# Altium integrated library TI Amplifiers and Linear Special Function Amplifier.IntLib: 708 symbols (part 6 of 47)
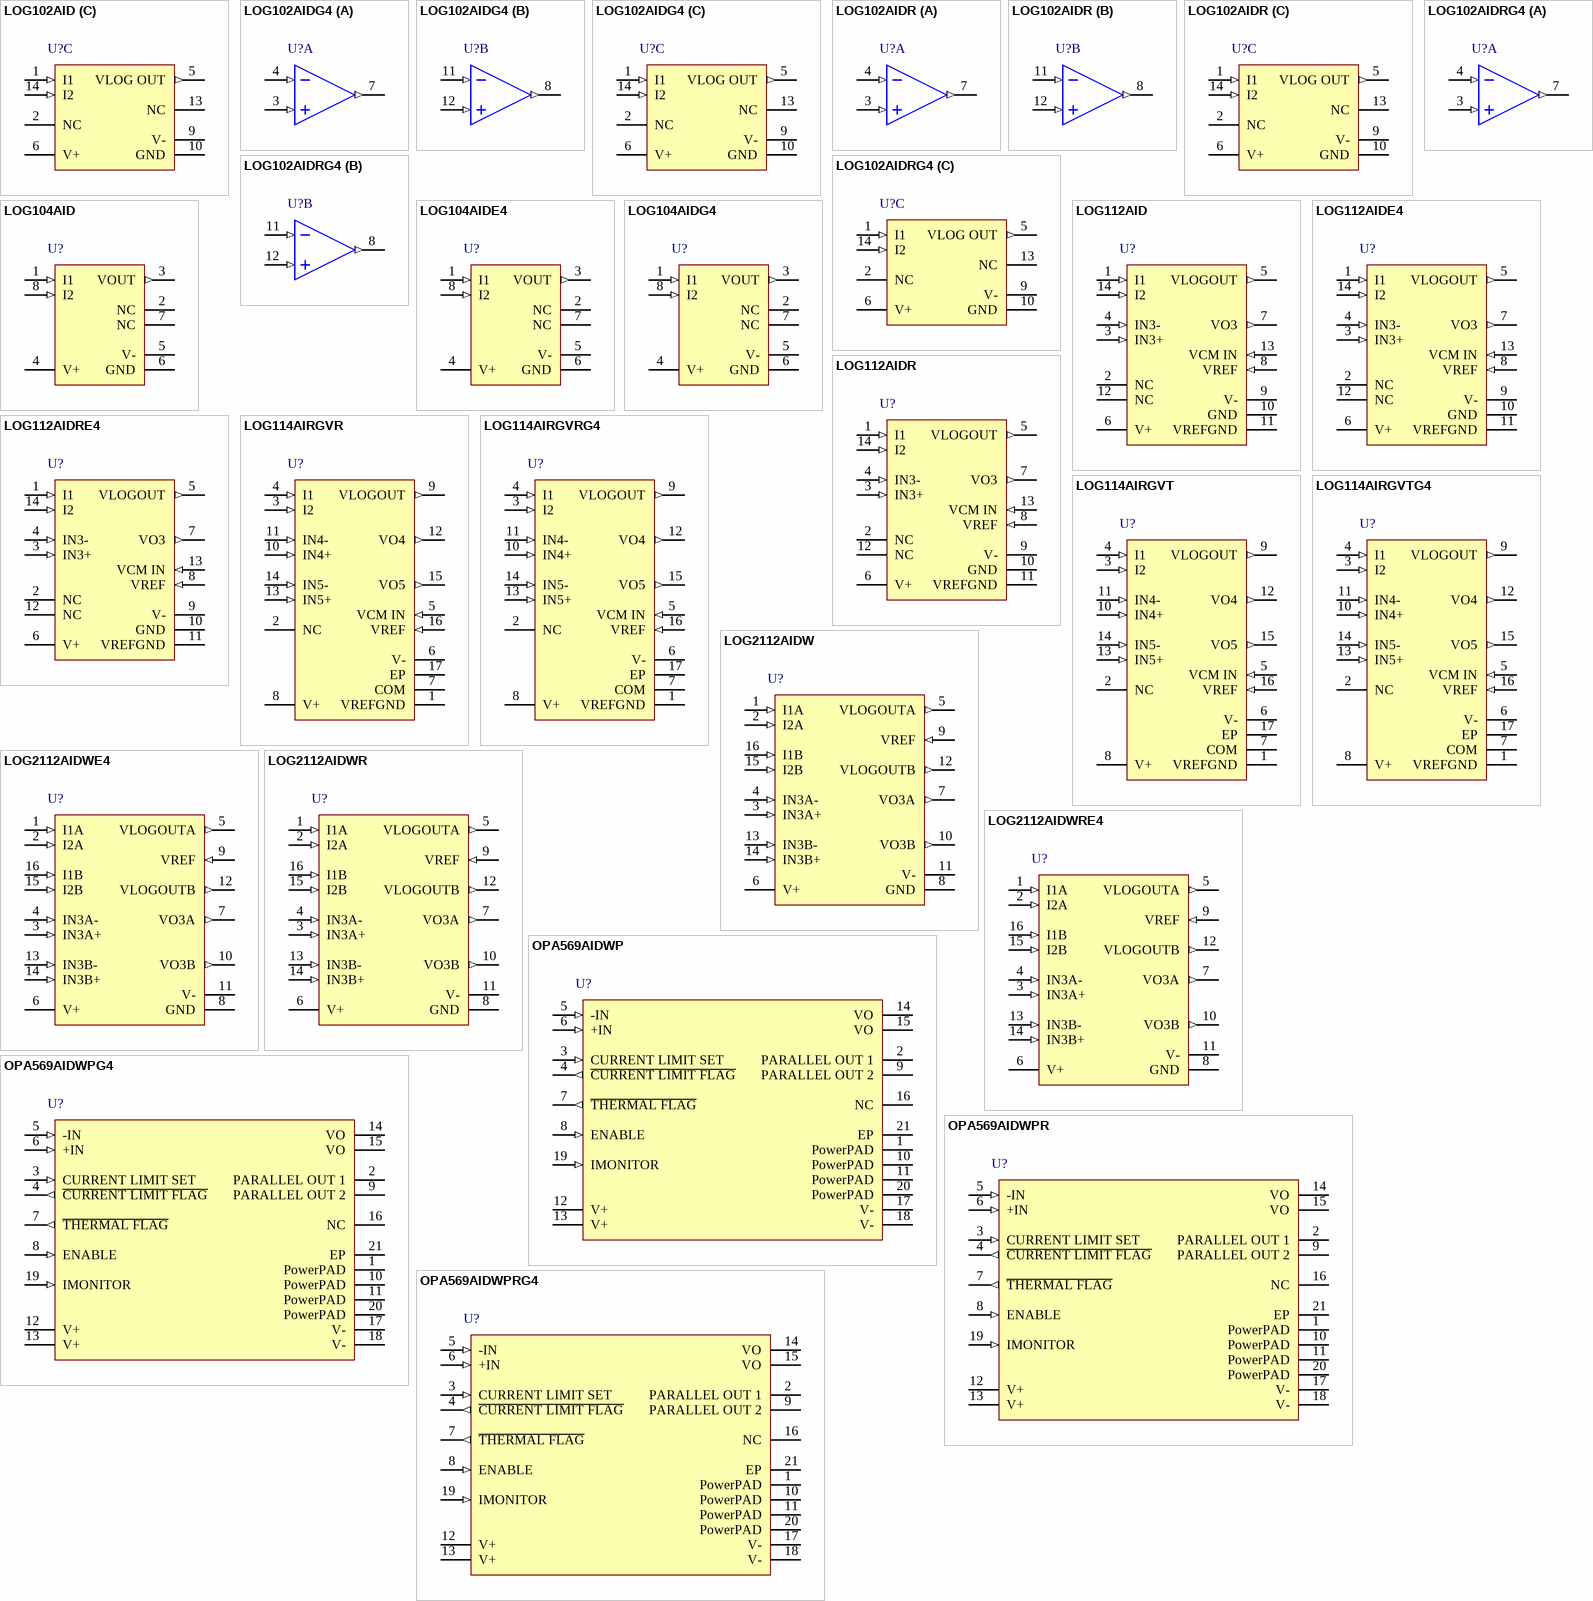
[diagram p44: symbols LOG102AID to OPA569AIDWPRG4]

## LOG112AIDR
designator U?
Precision Logarithmic and Log Ratio Amplifier with On-Chip 2.5 V Voltage Reference, -5 to 75 degC, 14-pin SOIC (D14), Green (RoHS & no Sb/Br); Manufacturer: Texas Instruments; PartNumber: LOG112AIDR; Conformity Error (initial 5 decades)(Max)(%): 0.2; Full-Scale Output Voltage(Max)(+/- V): 1.5; Full-Scale Output Voltage(Min)(+/- V): 1.2; Input Current Range(Max)(mA): 3.5; Input Current Range(Min)(nA): 0.1; Iq(Max)(mA): 1.75; Reference Type: Internal; Scale Factor(V/decade): 0.5; SubFamily: Logarithmic Amplifier; Vs (+/-)(Max)(V): 18; Vs (+/-)(Min)(V): 4.5; DatasheetVersion: SBOS246D; PackageVersion: 4040047-5/M, 06/2011; PackageReference: D14; PackageDescription: 14-Pin Plastic Small Outline, Body 8.65 x 3.9 mm, Pitch 1.27 mm; Supplier 1: Digi-Key; Supplier Part Number 1: LOG112AIDR-ND; Supplier 2: Newark; Supplier Part Number 2: 83C6926; Supplier 3: Mouser; Supplier Part Number 3: 595-LOG112AIDR; Eco-Plan: Green (RoHS & no Sb/Br); Offset Voltage (Input Amplifiers)(Max)(mV): 1.5; Mounting Technology: Surface Mount; Code_JEDEC: MS-012; ComponentLink1Description: Manufacturer URL; ComponentLink1URL: http://www.ti.com/; ComponentLink2Description: Datasheet; ComponentLink2URL: http://www.ti.com/general/docs/lit/getliterature.tsp?genericPartNumber=LOG112&fileType=pdf; ComponentLink3Description: Package Specification; ComponentLink3URL: http://www.ti.com/lit/ml/mpds177g/mpds177g.pdf
footprint TI-D14_N (SOIC, 14-Leads, Body 8.75x4mm, Pitch 1.27mm, IPC Medium Density)
footprint TI-D14_L (SOIC, 14-Leads, Body 8.75x4mm, Pitch 1.27mm, IPC High Density)
footprint TI-D14_M (SOIC, 14-Leads, Body 8.75x4mm, Pitch 1.27mm, IPC Low Density)
pins: 1 I1 (in), 2 NC, 3 IN3+ (in), 4 IN3- (in), 5 VLOGOUT (out), 6 V+ (power), 7 VO3 (out), 8 VREF (in), 9 V- (power), 10 GND (power), 11 VREFGND (power), 12 NC, 13 VCM IN (in), 14 I2 (in)

## LOG112AIDRE4
designator U?
Precision Logarithmic and Log Ratio Amplifier with On-Chip 2.5 V Voltage Reference, -5 to 75 degC, 14-pin SOIC (D14), Green (RoHS & no Sb/Br); Manufacturer: Texas Instruments; PartNumber: LOG112AIDRE4; Conformity Error (initial 5 decades)(Max)(%): 0.2; Full-Scale Output Voltage(Max)(+/- V): 1.5; Full-Scale Output Voltage(Min)(+/- V): 1.2; Input Current Range(Max)(mA): 3.5; Input Current Range(Min)(nA): 0.1; Iq(Max)(mA): 1.75; Reference Type: Internal; Scale Factor(V/decade): 0.5; SubFamily: Logarithmic Amplifier; Vs (+/-)(Max)(V): 18; Vs (+/-)(Min)(V): 4.5; DatasheetVersion: SBOS246D; PackageVersion: 4040047-5/M, 06/2011; PackageReference: D14; PackageDescription: 14-Pin Plastic Small Outline, Body 8.65 x 3.9 mm, Pitch 1.27 mm; Supplier 1: Digi-Key; Supplier Part Number 1: LOG112AIDRE4-ND; Supplier 2: Newark; Supplier Part Number 2: 61K0068; Supplier 3: Mouser; Supplier Part Number 3: 595-LOG112AIDRE4; Eco-Plan: Green (RoHS & no Sb/Br); Offset Voltage (Input Amplifiers)(Max)(mV): 1.5; Mounting Technology: Surface Mount; Code_JEDEC: MS-012; ComponentLink1Description: Manufacturer URL; ComponentLink1URL: http://www.ti.com/; ComponentLink2Description: Datasheet; ComponentLink2URL: http://www.ti.com/general/docs/lit/getliterature.tsp?genericPartNumber=LOG112&fileType=pdf; ComponentLink3Description: Package Specification; ComponentLink3URL: http://www.ti.com/lit/ml/mpds177g/mpds177g.pdf
footprint TI-D14_N (SOIC, 14-Leads, Body 8.75x4mm, Pitch 1.27mm, IPC Medium Density)
footprint TI-D14_L (SOIC, 14-Leads, Body 8.75x4mm, Pitch 1.27mm, IPC High Density)
footprint TI-D14_M (SOIC, 14-Leads, Body 8.75x4mm, Pitch 1.27mm, IPC Low Density)
pins: 1 I1 (in), 2 NC, 3 IN3+ (in), 4 IN3- (in), 5 VLOGOUT (out), 6 V+ (power), 7 VO3 (out), 8 VREF (in), 9 V- (power), 10 GND (power), 11 VREFGND (power), 12 NC, 13 VCM IN (in), 14 I2 (in)

## LOG114AIRGVR
designator U?
Precision High-Speed Logarithmic Amplifier with 2.5 V Reference and Uncommitted Output Operational Amplifier, -40 to 85 degC, 16-pin QFN (RGV16), Green (RoHS & no Sb/Br); Manufacturer: Texas Instruments; PartNumber: LOG114AIRGVR; Conformity Error (initial 5 decades)(Max)(%): 0.2; Input Current Range(Max)(mA): 10; Input Current Range(Min)(nA): 0.1; Iq(Max)(mA): 15; Offset Voltage (Input Amplifiers)(Max)(mV): 4; Reference Type: Internal; Scale Factor(V/decade): 0.375; Vs (+/-)(Max)(V): 11; Vs (+/-)(Min)(V): 4.8; DatasheetVersion: SBOS301A; PackageVersion: 4203497/F, 06/2011; PackageReference: RGV16-2160X2160TP; PackageDescription: 16-Pin Plastic Quad Flatpack No-Lead, Body 4 x 4 mm, Pitch 0.65 mm; Supplier 1: Digi-Key; Supplier Part Number 1: LOG114AIRGVR-ND; Supplier 2: Mouser; Supplier Part Number 2: 595-LOG114AIRGVR; Eco-Plan: Green (RoHS & no Sb/Br); SubFamily: Logarithmic Amplifier; Mounting Technology: Surface Mount; Code_JEDEC: MO-220; ComponentLink1Description: Manufacturer URL; ComponentLink1URL: http://www.ti.com/; ComponentLink2Description: Datasheet; ComponentLink2URL: http://www.ti.com/general/docs/lit/getliterature.tsp?genericPartNumber=LOG114&fileType=pdf; ComponentLink3Description: Package Specification; ComponentLink3URL: http://www.ti.com/litv/pdf/mpqf121e
footprint TI-RGV16-2160X2160TP_V (QFN, 16-Leads, Body 4x4mm, Pitch 0.65mm, Thermal Pad 2.16 x 2.16mm)
pins: 1 VREFGND (power), 2 NC, 3 I2 (in), 4 I1 (in), 5 VCM IN (in), 6 V- (power), 7 COM (power), 8 V+ (power), 9 VLOGOUT (out), 10 IN4+ (in), 11 IN4- (in), 12 VO4 (out), 13 IN5+ (in), 14 IN5- (in), 15 VO5 (out), 16 VREF (in), 17 EP (power)

## LOG114AIRGVRG4
designator U?
Precision High-Speed Logarithmic Amplifier with 2.5 V Reference and Uncommitted Output Operational Amplifier, -40 to 85 degC, 16-pin QFN (RGV16), Green (RoHS & no Sb/Br); Manufacturer: Texas Instruments; PartNumber: LOG114AIRGVRG4; Conformity Error (initial 5 decades)(Max)(%): 0.2; Input Current Range(Max)(mA): 10; Input Current Range(Min)(nA): 0.1; Iq(Max)(mA): 15; Offset Voltage (Input Amplifiers)(Max)(mV): 4; Reference Type: Internal; Scale Factor(V/decade): 0.375; Vs (+/-)(Max)(V): 11; Vs (+/-)(Min)(V): 4.8; DatasheetVersion: SBOS301A; PackageVersion: 4203497/F, 06/2011; PackageReference: RGV16-2160X2160TP; PackageDescription: 16-Pin Plastic Quad Flatpack No-Lead, Body 4 x 4 mm, Pitch 0.65 mm; Supplier 1: Digi-Key; Supplier Part Number 1: LOG114AIRGVRG4-ND; Supplier 2: Mouser; Supplier Part Number 2: 595-LOG114AIRGVRG4; Eco-Plan: Green (RoHS & no Sb/Br); SubFamily: Logarithmic Amplifier; Mounting Technology: Surface Mount; Code_JEDEC: MO-220; ComponentLink1Description: Manufacturer URL; ComponentLink1URL: http://www.ti.com/; ComponentLink2Description: Datasheet; ComponentLink2URL: http://www.ti.com/general/docs/lit/getliterature.tsp?genericPartNumber=LOG114&fileType=pdf; ComponentLink3Description: Package Specification; ComponentLink3URL: http://www.ti.com/litv/pdf/mpqf121e
footprint TI-RGV16-2160X2160TP_V (QFN, 16-Leads, Body 4x4mm, Pitch 0.65mm, Thermal Pad 2.16 x 2.16mm)
pins: 1 VREFGND (power), 2 NC, 3 I2 (in), 4 I1 (in), 5 VCM IN (in), 6 V- (power), 7 COM (power), 8 V+ (power), 9 VLOGOUT (out), 10 IN4+ (in), 11 IN4- (in), 12 VO4 (out), 13 IN5+ (in), 14 IN5- (in), 15 VO5 (out), 16 VREF (in), 17 EP (power)

## LOG114AIRGVT
designator U?
Precision High-Speed Logarithmic Amplifier with 2.5 V Reference and Uncommitted Output Operational Amplifier, -40 to 85 degC, 16-pin QFN (RGV16), Green (RoHS & no Sb/Br); Manufacturer: Texas Instruments; PartNumber: LOG114AIRGVT; Conformity Error (initial 5 decades)(Max)(%): 0.2; Input Current Range(Max)(mA): 10; Input Current Range(Min)(nA): 0.1; Iq(Max)(mA): 15; Offset Voltage (Input Amplifiers)(Max)(mV): 4; Reference Type: Internal; Scale Factor(V/decade): 0.375; Vs (+/-)(Max)(V): 11; Vs (+/-)(Min)(V): 4.8; DatasheetVersion: SBOS301A; PackageVersion: 4203497/F, 06/2011; PackageReference: RGV16-2160X2160TP; PackageDescription: 16-Pin Plastic Quad Flatpack No-Lead, Body 4 x 4 mm, Pitch 0.65 mm; Supplier 1: Digi-Key; Supplier Part Number 1: 296-21666-2-ND; Supplier 2: Digi-Key; Supplier Part Number 2: 296-21666-1-ND; Supplier 3: Digi-Key; Supplier Part Number 3: 296-21666-6-ND; Supplier 4: Farnell; Supplier Part Number 4: 1754978; Supplier 5: Newark; Supplier Part Number 5: 86W6037; Supplier 6: Newark; Supplier Part Number 6: 36M8091; Supplier 7: Mouser; Supplier Part Number 7: 595-LOG114AIRGVT; Eco-Plan: Green (RoHS & no Sb/Br); SubFamily: Logarithmic Amplifier; Mounting Technology: Surface Mount; Code_JEDEC: MO-220; ComponentLink1Description: Manufacturer URL; ComponentLink1URL: http://www.ti.com/; ComponentLink2Description: Datasheet; ComponentLink2URL: http://www.ti.com/general/docs/lit/getliterature.tsp?genericPartNumber=LOG114&fileType=pdf; ComponentLink3Description: Package Specification; ComponentLink3URL: http://www.ti.com/litv/pdf/mpqf121e
footprint TI-RGV16-2160X2160TP_V (QFN, 16-Leads, Body 4x4mm, Pitch 0.65mm, Thermal Pad 2.16 x 2.16mm)
pins: 1 VREFGND (power), 2 NC, 3 I2 (in), 4 I1 (in), 5 VCM IN (in), 6 V- (power), 7 COM (power), 8 V+ (power), 9 VLOGOUT (out), 10 IN4+ (in), 11 IN4- (in), 12 VO4 (out), 13 IN5+ (in), 14 IN5- (in), 15 VO5 (out), 16 VREF (in), 17 EP (power)

## LOG114AIRGVTG4
designator U?
Precision High-Speed Logarithmic Amplifier with 2.5 V Reference and Uncommitted Output Operational Amplifier, -40 to 85 degC, 16-pin QFN (RGV16), Green (RoHS & no Sb/Br); Manufacturer: Texas Instruments; PartNumber: LOG114AIRGVTG4; Conformity Error (initial 5 decades)(Max)(%): 0.2; Input Current Range(Max)(mA): 10; Input Current Range(Min)(nA): 0.1; Iq(Max)(mA): 15; Offset Voltage (Input Amplifiers)(Max)(mV): 4; Reference Type: Internal; Scale Factor(V/decade): 0.375; Vs (+/-)(Max)(V): 11; Vs (+/-)(Min)(V): 4.8; DatasheetVersion: SBOS301A; PackageVersion: 4203497/F, 06/2011; PackageReference: RGV16-2160X2160TP; PackageDescription: 16-Pin Plastic Quad Flatpack No-Lead, Body 4 x 4 mm, Pitch 0.65 mm; Supplier 1: Digi-Key; Supplier Part Number 1: LOG114AIRGVTG4-ND; Supplier 2: Mouser; Supplier Part Number 2: 595-LOG114AIRGVTG4; Eco-Plan: Green (RoHS & no Sb/Br); SubFamily: Logarithmic Amplifier; Mounting Technology: Surface Mount; Code_JEDEC: MO-220; ComponentLink1Description: Manufacturer URL; ComponentLink1URL: http://www.ti.com/; ComponentLink2Description: Datasheet; ComponentLink2URL: http://www.ti.com/general/docs/lit/getliterature.tsp?genericPartNumber=LOG114&fileType=pdf; ComponentLink3Description: Package Specification; ComponentLink3URL: http://www.ti.com/litv/pdf/mpqf121e
footprint TI-RGV16-2160X2160TP_V (QFN, 16-Leads, Body 4x4mm, Pitch 0.65mm, Thermal Pad 2.16 x 2.16mm)
pins: 1 VREFGND (power), 2 NC, 3 I2 (in), 4 I1 (in), 5 VCM IN (in), 6 V- (power), 7 COM (power), 8 V+ (power), 9 VLOGOUT (out), 10 IN4+ (in), 11 IN4- (in), 12 VO4 (out), 13 IN5+ (in), 14 IN5- (in), 15 VO5 (out), 16 VREF (in), 17 EP (power)

## LOG2112AIDW
designator U?
Precision Logarithmic and Log Ratio Amplifier with On-Chip 2.5 V Voltage Reference, -40 to 85 degC, 16-pin SOIC (DW16), Green (RoHS & no Sb/Br); Manufacturer: Texas Instruments; PartNumber: LOG2112AIDW; Conformity Error (initial 5 decades)(Max)(%): 0.2; Full-Scale Output Voltage(Max)(+/- V): 1.5; Full-Scale Output Voltage(Min)(+/- V): 1.2; Input Current Range(Max)(mA): 3.5; Input Current Range(Min)(nA): 0.1; Reference Type: Internal; Scale Factor(V/decade): 0.5; SubFamily: Logarithmic Amplifier; Vs (+/-)(Max)(V): 18; Vs (+/-)(Min)(V): 4.5; DatasheetVersion: SBOS246D; PackageVersion: 4040000-2/G, 01/2011; PackageReference: DW16; PackageDescription: 16-Pin Plastic Small Outline, Body 10.30 x 7.50 mm, Pitch 1.27 mm; Supplier 1: Digi-Key; Supplier Part Number 1: 296-13815-5-ND; Supplier 2: Newark; Supplier Part Number 2: 02H5271; Supplier 3: Mouser; Supplier Part Number 3: 595-LOG2112AIDW; Eco-Plan: Green (RoHS & no Sb/Br); Iq(Max)(mA): 3.5; Offset Voltage (Input Amplifiers)(Max)(mV): 1.5; Mounting Technology: Surface Mount; Code_JEDEC: MS-013; ComponentLink1Description: Manufacturer URL; ComponentLink1URL: http://www.ti.com/; ComponentLink2Description: Datasheet; ComponentLink2URL: http://www.ti.com/general/docs/lit/getliterature.tsp?genericPartNumber=LOG2112&fileType=pdf; ComponentLink3Description: Package Specification; ComponentLink3URL: http://www.ti.com/litv/pdf/msoi003g
footprint TI-DW16_N (SOIC, 16-Leads, Body 10.5x7.6mm, Pitch 1.27mm, IPC Medium Density)
footprint TI-DW16_L (SOIC, 16-Leads, Body 10.5x7.6mm, Pitch 1.27mm, IPC High Density)
footprint TI-DW16_M (SOIC, 16-Leads, Body 10.5x7.6mm, Pitch 1.27mm, IPC Low Density)
pins: 1 I1A (in), 2 I2A (in), 3 IN3A+ (in), 4 IN3A- (in), 5 VLOGOUTA (out), 6 V+ (power), 7 VO3A (out), 8 GND (power), 9 VREF (in), 10 VO3B (out), 11 V- (power), 12 VLOGOUTB (out), 13 IN3B- (in), 14 IN3B+ (in), 15 I2B (in), 16 I1B (in)

## LOG2112AIDWE4
designator U?
Precision Logarithmic and Log Ratio Amplifier with On-Chip 2.5 V Voltage Reference, -40 to 85 degC, 16-pin SOIC (DW16), Green (RoHS & no Sb/Br); Manufacturer: Texas Instruments; PartNumber: LOG2112AIDWE4; Conformity Error (initial 5 decades)(Max)(%): 0.2; Full-Scale Output Voltage(Max)(+/- V): 1.5; Full-Scale Output Voltage(Min)(+/- V): 1.2; Input Current Range(Max)(mA): 3.5; Input Current Range(Min)(nA): 0.1; Reference Type: Internal; Scale Factor(V/decade): 0.5; SubFamily: Logarithmic Amplifier; Vs (+/-)(Max)(V): 18; Vs (+/-)(Min)(V): 4.5; DatasheetVersion: SBOS246D; PackageVersion: 4040000-2/G, 01/2011; PackageReference: DW16; PackageDescription: 16-Pin Plastic Small Outline, Body 10.30 x 7.50 mm, Pitch 1.27 mm; Supplier 1: Digi-Key; Supplier Part Number 1: LOG2112AIDWE4-ND; Supplier 2: Mouser; Supplier Part Number 2: 595-LOG2112AIDWE4; Eco-Plan: Green (RoHS & no Sb/Br); Iq(Max)(mA): 3.5; Offset Voltage (Input Amplifiers)(Max)(mV): 1.5; Mounting Technology: Surface Mount; Code_JEDEC: MS-013; ComponentLink1Description: Manufacturer URL; ComponentLink1URL: http://www.ti.com/; ComponentLink2Description: Datasheet; ComponentLink2URL: http://www.ti.com/general/docs/lit/getliterature.tsp?genericPartNumber=LOG2112&fileType=pdf; ComponentLink3Description: Package Specification; ComponentLink3URL: http://www.ti.com/litv/pdf/msoi003g
footprint TI-DW16_N (SOIC, 16-Leads, Body 10.5x7.6mm, Pitch 1.27mm, IPC Medium Density)
footprint TI-DW16_L (SOIC, 16-Leads, Body 10.5x7.6mm, Pitch 1.27mm, IPC High Density)
footprint TI-DW16_M (SOIC, 16-Leads, Body 10.5x7.6mm, Pitch 1.27mm, IPC Low Density)
pins: 1 I1A (in), 2 I2A (in), 3 IN3A+ (in), 4 IN3A- (in), 5 VLOGOUTA (out), 6 V+ (power), 7 VO3A (out), 8 GND (power), 9 VREF (in), 10 VO3B (out), 11 V- (power), 12 VLOGOUTB (out), 13 IN3B- (in), 14 IN3B+ (in), 15 I2B (in), 16 I1B (in)

## LOG2112AIDWR
designator U?
Precision Logarithmic and Log Ratio Amplifier with On-Chip 2.5 V Voltage Reference, -40 to 85 degC, 16-pin SOIC (DW16), Green (RoHS & no Sb/Br); Manufacturer: Texas Instruments; PartNumber: LOG2112AIDWR; Conformity Error (initial 5 decades)(Max)(%): 0.2; Full-Scale Output Voltage(Max)(+/- V): 1.5; Full-Scale Output Voltage(Min)(+/- V): 1.2; Input Current Range(Max)(mA): 3.5; Input Current Range(Min)(nA): 0.1; Reference Type: Internal; Scale Factor(V/decade): 0.5; SubFamily: Logarithmic Amplifier; Vs (+/-)(Max)(V): 18; Vs (+/-)(Min)(V): 4.5; DatasheetVersion: SBOS246D; PackageVersion: 4040000-2/G, 01/2011; PackageReference: DW16; PackageDescription: 16-Pin Plastic Small Outline, Body 10.30 x 7.50 mm, Pitch 1.27 mm; Supplier 1: Digi-Key; Supplier Part Number 1: LOG2112AIDWR-ND; Supplier 2: Mouser; Supplier Part Number 2: 595-LOG2112AIDWR; Eco-Plan: Green (RoHS & no Sb/Br); Iq(Max)(mA): 3.5; Offset Voltage (Input Amplifiers)(Max)(mV): 1.5; Mounting Technology: Surface Mount; Code_JEDEC: MS-013; ComponentLink1Description: Manufacturer URL; ComponentLink1URL: http://www.ti.com/; ComponentLink2Description: Datasheet; ComponentLink2URL: http://www.ti.com/general/docs/lit/getliterature.tsp?genericPartNumber=LOG2112&fileType=pdf; ComponentLink3Description: Package Specification; ComponentLink3URL: http://www.ti.com/litv/pdf/msoi003g
footprint TI-DW16_N (SOIC, 16-Leads, Body 10.5x7.6mm, Pitch 1.27mm, IPC Medium Density)
footprint TI-DW16_L (SOIC, 16-Leads, Body 10.5x7.6mm, Pitch 1.27mm, IPC High Density)
footprint TI-DW16_M (SOIC, 16-Leads, Body 10.5x7.6mm, Pitch 1.27mm, IPC Low Density)
pins: 1 I1A (in), 2 I2A (in), 3 IN3A+ (in), 4 IN3A- (in), 5 VLOGOUTA (out), 6 V+ (power), 7 VO3A (out), 8 GND (power), 9 VREF (in), 10 VO3B (out), 11 V- (power), 12 VLOGOUTB (out), 13 IN3B- (in), 14 IN3B+ (in), 15 I2B (in), 16 I1B (in)

## LOG2112AIDWRE4
designator U?
Precision Logarithmic and Log Ratio Amplifier with On-Chip 2.5 V Voltage Reference, -40 to 85 degC, 16-pin SOIC (DW16), Green (RoHS & no Sb/Br); Manufacturer: Texas Instruments; PartNumber: LOG2112AIDWRE4; Conformity Error (initial 5 decades)(Max)(%): 0.2; Full-Scale Output Voltage(Max)(+/- V): 1.5; Full-Scale Output Voltage(Min)(+/- V): 1.2; Input Current Range(Max)(mA): 3.5; Input Current Range(Min)(nA): 0.1; Reference Type: Internal; Scale Factor(V/decade): 0.5; SubFamily: Logarithmic Amplifier; Vs (+/-)(Max)(V): 18; Vs (+/-)(Min)(V): 4.5; DatasheetVersion: SBOS246D; PackageVersion: 4040000-2/G, 01/2011; PackageReference: DW16; PackageDescription: 16-Pin Plastic Small Outline, Body 10.30 x 7.50 mm, Pitch 1.27 mm; Supplier 1: Digi-Key; Supplier Part Number 1: LOG2112AIDWRE4-ND; Supplier 2: Mouser; Supplier Part Number 2: 595-LOG2112AIDWRE4; Eco-Plan: Green (RoHS & no Sb/Br); Iq(Max)(mA): 3.5; Offset Voltage (Input Amplifiers)(Max)(mV): 1.5; Mounting Technology: Surface Mount; Code_JEDEC: MS-013; ComponentLink1Description: Manufacturer URL; ComponentLink1URL: http://www.ti.com/; ComponentLink2Description: Datasheet; ComponentLink2URL: http://www.ti.com/general/docs/lit/getliterature.tsp?genericPartNumber=LOG2112&fileType=pdf; ComponentLink3Description: Package Specification; ComponentLink3URL: http://www.ti.com/litv/pdf/msoi003g
footprint TI-DW16_N (SOIC, 16-Leads, Body 10.5x7.6mm, Pitch 1.27mm, IPC Medium Density)
footprint TI-DW16_L (SOIC, 16-Leads, Body 10.5x7.6mm, Pitch 1.27mm, IPC High Density)
footprint TI-DW16_M (SOIC, 16-Leads, Body 10.5x7.6mm, Pitch 1.27mm, IPC Low Density)
pins: 1 I1A (in), 2 I2A (in), 3 IN3A+ (in), 4 IN3A- (in), 5 VLOGOUTA (out), 6 V+ (power), 7 VO3A (out), 8 GND (power), 9 VREF (in), 10 VO3B (out), 11 V- (power), 12 VLOGOUTB (out), 13 IN3B- (in), 14 IN3B+ (in), 15 I2B (in), 16 I1B (in)

## OPA569AIDWP
designator U?
Power Op Amp, Output Signal Swings within 200 mV of Rails at 2 A Output Current, -55 to 125 degC, 20-pin SOP (DWP20), Green (RoHS & no Sb/Br); Manufacturer: Texas Instruments; PartNumber: OPA569AIDWP; Iq(Max)(mA): 6; Vs(Max)(V): 5.5; Vs(Min)(V): 2.7; DatasheetVersion: SBOS264A; PackageVersion: 4147575/C, 02/2005; PackageReference: DWP20-3905X3265TP; PackageDescription: 20-Pin PowerPAD(TM) Plastic Small-Outline Package, Body 12.825 x 7.52 mm, Pitch 1.27 mm; Supplier 1: Digi-Key; Supplier Part Number 1: 296-14174-5-ND; Supplier 2: Farnell; Supplier Part Number 2: 1470363; Supplier 3: Mouser; Supplier Part Number 3: 595-OPA569AIDWP; Eco-Plan: Green (RoHS & no Sb/Br); Mounting Technology: Surface Mount; ComponentLink1Description: Manufacturer URL; ComponentLink1URL: http://www.ti.com/; ComponentLink2Description: Datasheet; ComponentLink2URL: http://www.ti.com/general/docs/lit/getliterature.tsp?genericPartNumber=OPA569&fileType=pdf; ComponentLink3Description: Package Specification; ComponentLink3URL: http://www.ti.com/litv/pdf/mpds032b
footprint TI-DWP20-3905X3265TP_N (SOP, 20-Leads, Body 12.83x7.52mm, Pitch 1.27mm, Thermal Pad 4.32x3.81mm, IPC Medium Density)
footprint TI-DWP20-3905X3265TP_L (SOP, 20-Leads, Body 12.83x7.52mm, Pitch 1.27mm, Thermal Pad 4.32x3.81mm, IPC High Density)
footprint TI-DWP20-3905X3265TP_M (SOP, 20-Leads, Body 12.83x7.52mm, Pitch 1.27mm, Thermal Pad 4.32x3.81mm, IPC Low Density)
pins: 1 PowerPAD (power) "PowerPAD Connection Pins.", 2 PARALLEL OUT 1 (hiz) "Connection for Paralleling Multiple Amplifiers", 3 CURRENT LIMIT SET (in) "Current Limit Set Pin", 4 ~{CURRENT LIMIT FLAG} (out) "Indicates When Part is in Current Limit (Active LOW).", 5 -IN (in) "Inverting Input", 6 +IN (in) "Noninverting Input", 7 ~{THERMAL FLAG} (out) "Indicates Thermal Stress (Active LOW)", 8 ENABLE (in) "Enabled HIGH. Shut down LOW.", 9 PARALLEL OUT 2 (hiz) "Connection for Paralleling Multiple Amplifiers", 10 PowerPAD (power) "PowerPAD Connection Pins", 11 PowerPAD (power) "PowerPAD Connection Pins", 12 V+ (power) "Positive Power-Supply Voltage", 13 V+ (power) "Positive Power-Supply Voltage", 14 VO (hiz) "Output", 15 VO (hiz) "Output", 16 NC "No Internal Connection", 17 V- (power) "Negative Power-Supply Voltage", 18 V- (power) "Negative Power-Supply Voltage", 19 IMONITOR (in) "Provides 1:475 Bidirectional Copy of Output Current.", 20 PowerPAD (power) "PowerPAD Connection Pins", 21 EP "Exposed pad."

## OPA569AIDWPG4
designator U?
Power Op Amp, Output Signal Swings within 200 mV of Rails at 2 A Output Current, -55 to 125 degC, 20-pin SOP (DWP20), Green (RoHS & no Sb/Br); Manufacturer: Texas Instruments; PartNumber: OPA569AIDWPG4; Iq(Max)(mA): 6; Vs(Max)(V): 5.5; Vs(Min)(V): 2.7; DatasheetVersion: SBOS264A; PackageVersion: 4147575/C, 02/2005; PackageReference: DWP20-3905X3265TP; PackageDescription: 20-Pin PowerPAD(TM) Plastic Small-Outline Package, Body 12.825 x 7.52 mm, Pitch 1.27 mm; Supplier 1: Digi-Key; Supplier Part Number 1: OPA569AIDWPG4-ND; Supplier 2: Farnell; Supplier Part Number 2: 1234786; Supplier 3: Mouser; Supplier Part Number 3: 595-OPA569AIDWPG4; Eco-Plan: Green (RoHS & no Sb/Br); Mounting Technology: Surface Mount; ComponentLink1Description: Manufacturer URL; ComponentLink1URL: http://www.ti.com/; ComponentLink2Description: Datasheet; ComponentLink2URL: http://www.ti.com/general/docs/lit/getliterature.tsp?genericPartNumber=OPA569&fileType=pdf; ComponentLink3Description: Package Specification; ComponentLink3URL: http://www.ti.com/litv/pdf/mpds032b
footprint TI-DWP20-3905X3265TP_N (SOP, 20-Leads, Body 12.83x7.52mm, Pitch 1.27mm, Thermal Pad 4.32x3.81mm, IPC Medium Density)
footprint TI-DWP20-3905X3265TP_L (SOP, 20-Leads, Body 12.83x7.52mm, Pitch 1.27mm, Thermal Pad 4.32x3.81mm, IPC High Density)
footprint TI-DWP20-3905X3265TP_M (SOP, 20-Leads, Body 12.83x7.52mm, Pitch 1.27mm, Thermal Pad 4.32x3.81mm, IPC Low Density)
pins: 1 PowerPAD (power) "PowerPAD Connection Pins.", 2 PARALLEL OUT 1 (hiz) "Connection for Paralleling Multiple Amplifiers", 3 CURRENT LIMIT SET (in) "Current Limit Set Pin", 4 ~{CURRENT LIMIT FLAG} (out) "Indicates When Part is in Current Limit (Active LOW).", 5 -IN (in) "Inverting Input", 6 +IN (in) "Noninverting Input", 7 ~{THERMAL FLAG} (out) "Indicates Thermal Stress (Active LOW)", 8 ENABLE (in) "Enabled HIGH. Shut down LOW.", 9 PARALLEL OUT 2 (hiz) "Connection for Paralleling Multiple Amplifiers", 10 PowerPAD (power) "PowerPAD Connection Pins", 11 PowerPAD (power) "PowerPAD Connection Pins", 12 V+ (power) "Positive Power-Supply Voltage", 13 V+ (power) "Positive Power-Supply Voltage", 14 VO (hiz) "Output", 15 VO (hiz) "Output", 16 NC "No Internal Connection", 17 V- (power) "Negative Power-Supply Voltage", 18 V- (power) "Negative Power-Supply Voltage", 19 IMONITOR (in) "Provides 1:475 Bidirectional Copy of Output Current.", 20 PowerPAD (power) "PowerPAD Connection Pins", 21 EP "Exposed pad."

## OPA569AIDWPR
designator U?
Power Op Amp, Output Signal Swings within 200 mV of Rails at 2 A Output Current, -55 to 125 degC, 20-pin SOP (DWP20), Green (RoHS & no Sb/Br); Manufacturer: Texas Instruments; PartNumber: OPA569AIDWPR; Iq(Max)(mA): 6; Vs(Max)(V): 5.5; Vs(Min)(V): 2.7; DatasheetVersion: SBOS264A; PackageVersion: 4147575/C, 02/2005; PackageReference: DWP20-3905X3265TP; PackageDescription: 20-Pin PowerPAD(TM) Plastic Small-Outline Package, Body 12.825 x 7.52 mm, Pitch 1.27 mm; Supplier 1: Digi-Key; Supplier Part Number 1: 296-26292-2-ND; Supplier 2: Digi-Key; Supplier Part Number 2: 296-26292-1-ND; Supplier 3: Digi-Key; Supplier Part Number 3: 296-26292-6-ND; Supplier 4: Newark; Supplier Part Number 4: 21H3993; Supplier 5: Mouser; Supplier Part Number 5: 595-OPA569AIDWPR; Eco-Plan: Green (RoHS & no Sb/Br); Mounting Technology: Surface Mount; ComponentLink1Description: Manufacturer URL; ComponentLink1URL: http://www.ti.com/; ComponentLink2Description: Datasheet; ComponentLink2URL: http://www.ti.com/general/docs/lit/getliterature.tsp?genericPartNumber=OPA569&fileType=pdf; ComponentLink3Description: Package Specification; ComponentLink3URL: http://www.ti.com/litv/pdf/mpds032b
footprint TI-DWP20-3905X3265TP_N (SOP, 20-Leads, Body 12.83x7.52mm, Pitch 1.27mm, Thermal Pad 4.32x3.81mm, IPC Medium Density)
footprint TI-DWP20-3905X3265TP_L (SOP, 20-Leads, Body 12.83x7.52mm, Pitch 1.27mm, Thermal Pad 4.32x3.81mm, IPC High Density)
footprint TI-DWP20-3905X3265TP_M (SOP, 20-Leads, Body 12.83x7.52mm, Pitch 1.27mm, Thermal Pad 4.32x3.81mm, IPC Low Density)
pins: 1 PowerPAD (power) "PowerPAD Connection Pins.", 2 PARALLEL OUT 1 (hiz) "Connection for Paralleling Multiple Amplifiers", 3 CURRENT LIMIT SET (in) "Current Limit Set Pin", 4 ~{CURRENT LIMIT FLAG} (out) "Indicates When Part is in Current Limit (Active LOW).", 5 -IN (in) "Inverting Input", 6 +IN (in) "Noninverting Input", 7 ~{THERMAL FLAG} (out) "Indicates Thermal Stress (Active LOW)", 8 ENABLE (in) "Enabled HIGH. Shut down LOW.", 9 PARALLEL OUT 2 (hiz) "Connection for Paralleling Multiple Amplifiers", 10 PowerPAD (power) "PowerPAD Connection Pins", 11 PowerPAD (power) "PowerPAD Connection Pins", 12 V+ (power) "Positive Power-Supply Voltage", 13 V+ (power) "Positive Power-Supply Voltage", 14 VO (hiz) "Output", 15 VO (hiz) "Output", 16 NC "No Internal Connection", 17 V- (power) "Negative Power-Supply Voltage", 18 V- (power) "Negative Power-Supply Voltage", 19 IMONITOR (in) "Provides 1:475 Bidirectional Copy of Output Current.", 20 PowerPAD (power) "PowerPAD Connection Pins", 21 EP "Exposed pad."

## OPA569AIDWPRG4
designator U?
Power Op Amp, Output Signal Swings within 200 mV of Rails at 2 A Output Current, -55 to 125 degC, 20-pin SOP (DWP20), Green (RoHS & no Sb/Br); Manufacturer: Texas Instruments; PartNumber: OPA569AIDWPRG4; Iq(Max)(mA): 6; Vs(Max)(V): 5.5; Vs(Min)(V): 2.7; DatasheetVersion: SBOS264A; PackageVersion: 4147575/C, 02/2005; PackageReference: DWP20-3905X3265TP; PackageDescription: 20-Pin PowerPAD(TM) Plastic Small-Outline Package, Body 12.825 x 7.52 mm, Pitch 1.27 mm; Supplier 1: Digi-Key; Supplier Part Number 1: OPA569AIDWPRG4-ND; Supplier 2: Mouser; Supplier Part Number 2: 595-OPA569AIDWPRG4; Eco-Plan: Green (RoHS & no Sb/Br); Mounting Technology: Surface Mount; ComponentLink1Description: Manufacturer URL; ComponentLink1URL: http://www.ti.com/; ComponentLink2Description: Datasheet; ComponentLink2URL: http://www.ti.com/general/docs/lit/getliterature.tsp?genericPartNumber=OPA569&fileType=pdf; ComponentLink3Description: Package Specification; ComponentLink3URL: http://www.ti.com/litv/pdf/mpds032b
footprint TI-DWP20-3905X3265TP_N (SOP, 20-Leads, Body 12.83x7.52mm, Pitch 1.27mm, Thermal Pad 4.32x3.81mm, IPC Medium Density)
footprint TI-DWP20-3905X3265TP_L (SOP, 20-Leads, Body 12.83x7.52mm, Pitch 1.27mm, Thermal Pad 4.32x3.81mm, IPC High Density)
footprint TI-DWP20-3905X3265TP_M (SOP, 20-Leads, Body 12.83x7.52mm, Pitch 1.27mm, Thermal Pad 4.32x3.81mm, IPC Low Density)
pins: 1 PowerPAD (power) "PowerPAD Connection Pins.", 2 PARALLEL OUT 1 (hiz) "Connection for Paralleling Multiple Amplifiers", 3 CURRENT LIMIT SET (in) "Current Limit Set Pin", 4 ~{CURRENT LIMIT FLAG} (out) "Indicates When Part is in Current Limit (Active LOW).", 5 -IN (in) "Inverting Input", 6 +IN (in) "Noninverting Input", 7 ~{THERMAL FLAG} (out) "Indicates Thermal Stress (Active LOW)", 8 ENABLE (in) "Enabled HIGH. Shut down LOW.", 9 PARALLEL OUT 2 (hiz) "Connection for Paralleling Multiple Amplifiers", 10 PowerPAD (power) "PowerPAD Connection Pins", 11 PowerPAD (power) "PowerPAD Connection Pins", 12 V+ (power) "Positive Power-Supply Voltage", 13 V+ (power) "Positive Power-Supply Voltage", 14 VO (hiz) "Output", 15 VO (hiz) "Output", 16 NC "No Internal Connection", 17 V- (power) "Negative Power-Supply Voltage", 18 V- (power) "Negative Power-Supply Voltage", 19 IMONITOR (in) "Provides 1:475 Bidirectional Copy of Output Current.", 20 PowerPAD (power) "PowerPAD Connection Pins", 21 EP "Exposed pad."

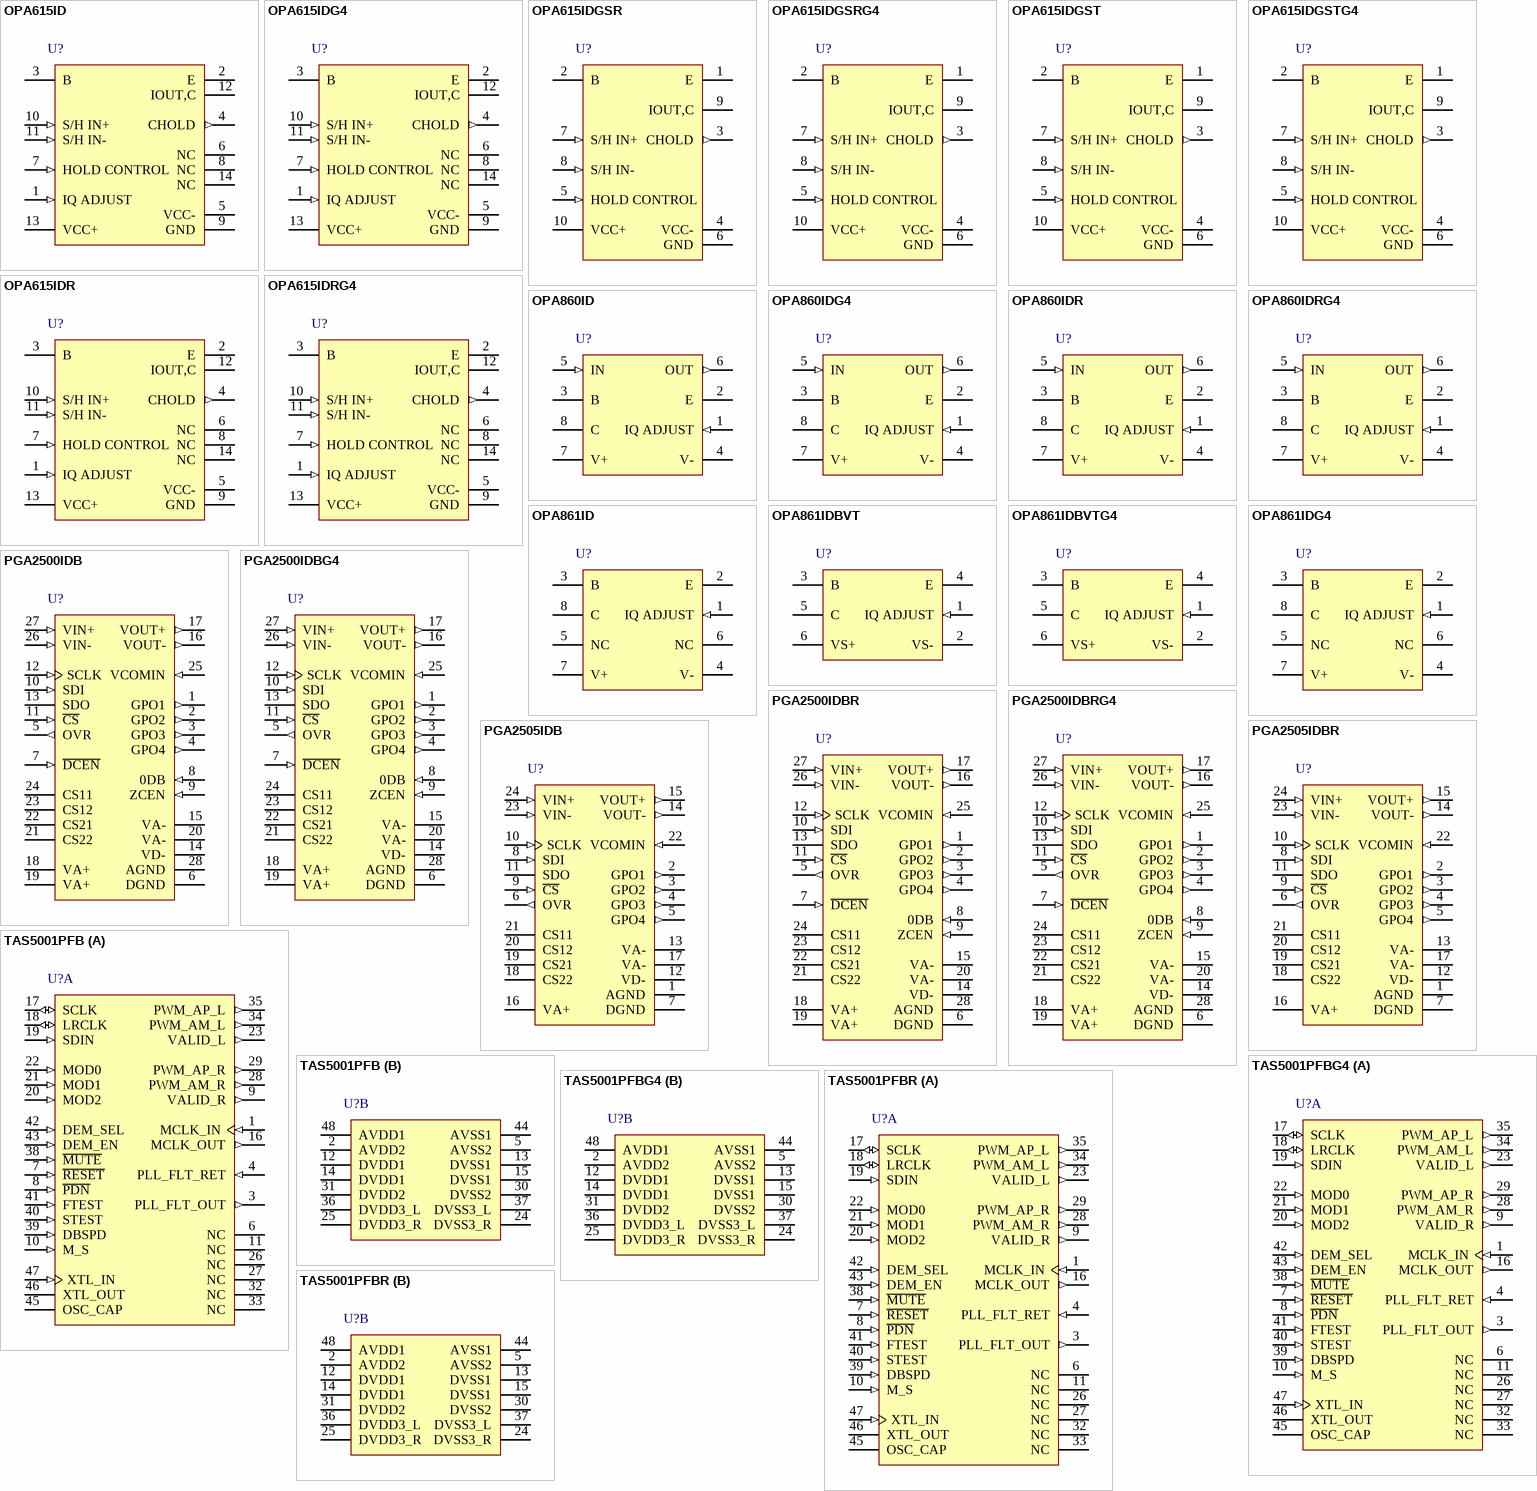
[diagram p5: symbols OPA615ID to TAS5001PFBR]

## OPA615ID
designator U?
Wide Bandwidth, DC Restoration Circuit, -40 to 85 degC, 14-pin SOIC (D14), Green (RoHS & no Sb/Br); Manufacturer: Texas Instruments; PartNumber: OPA615ID; BW @ Acl(MHz): 710; Iib(Max)(nA): 3000; Io(Typ)(mA): 5; Iq per channel(Max)(mA): 13; Number of Channels: 1; Slew Rate(Typ)(V/us): 2500; SubFamily: Transconductance Amplifier; Vio(Max)(mV): 40; Vn at Flatband(Typ)(nV/rtHz): 4.6; Vs(Max)(V): +/-6.2; Vs(Min)(V): +/-4; DatasheetVersion: SBOS299E; PackageVersion: 4040047-5/M, 06/2011; PackageReference: D14; PackageDescription: 14-Pin Plastic Small Outline, Body 8.65 x 3.9 mm, Pitch 1.27 mm; Supplier 1: Digi-Key; Supplier Part Number 1: 296-18291-5-ND; Supplier 2: Newark; Supplier Part Number 2: 52K5807; Supplier 3: Mouser; Supplier Part Number 3: 595-OPA615ID; Eco-Plan: Green (RoHS & no Sb/Br); Mounting Technology: Surface Mount; Code_JEDEC: MS-012; ComponentLink1Description: Manufacturer URL; ComponentLink1URL: http://www.ti.com/; ComponentLink2Description: Datasheet; ComponentLink2URL: http://www.ti.com/general/docs/lit/getliterature.tsp?genericPartNumber=OPA615&fileType=pdf; ComponentLink3Description: Package Specification; ComponentLink3URL: http://www.ti.com/lit/ml/mpds177g/mpds177g.pdf
footprint TI-D14_N (SOIC, 14-Leads, Body 8.75x4mm, Pitch 1.27mm, IPC Medium Density)
footprint TI-D14_L (SOIC, 14-Leads, Body 8.75x4mm, Pitch 1.27mm, IPC High Density)
footprint TI-D14_M (SOIC, 14-Leads, Body 8.75x4mm, Pitch 1.27mm, IPC Low Density)
pins: 1 IQ ADJUST (in), 2 E, 3 B, 4 CHOLD (out), 5 VCC- (power), 6 NC, 7 HOLD CONTROL (in), 8 NC, 9 GND (power), 10 S/H IN+ (in), 11 S/H IN- (in), 12 IOUT,C, 13 VCC+ (power), 14 NC

## OPA615IDG4
designator U?
Wide Bandwidth, DC Restoration Circuit, -40 to 85 degC, 14-pin SOIC (D14), Green (RoHS & no Sb/Br); Manufacturer: Texas Instruments; PartNumber: OPA615IDG4; BW @ Acl(MHz): 710; Iib(Max)(nA): 3000; Io(Typ)(mA): 5; Iq per channel(Max)(mA): 13; Number of Channels: 1; Slew Rate(Typ)(V/us): 2500; SubFamily: Transconductance Amplifier; Vio(Max)(mV): 40; Vn at Flatband(Typ)(nV/rtHz): 4.6; Vs(Max)(V): +/-6.2; Vs(Min)(V): +/-4; DatasheetVersion: SBOS299E; PackageVersion: 4040047-5/M, 06/2011; PackageReference: D14; PackageDescription: 14-Pin Plastic Small Outline, Body 8.65 x 3.9 mm, Pitch 1.27 mm; Supplier 1: Digi-Key; Supplier Part Number 1: OPA615IDG4-ND; Supplier 2: Mouser; Supplier Part Number 2: 595-OPA615IDG4; Eco-Plan: Green (RoHS & no Sb/Br); Mounting Technology: Surface Mount; Code_JEDEC: MS-012; ComponentLink1Description: Manufacturer URL; ComponentLink1URL: http://www.ti.com/; ComponentLink2Description: Datasheet; ComponentLink2URL: http://www.ti.com/general/docs/lit/getliterature.tsp?genericPartNumber=OPA615&fileType=pdf; ComponentLink3Description: Package Specification; ComponentLink3URL: http://www.ti.com/lit/ml/mpds177g/mpds177g.pdf
footprint TI-D14_N (SOIC, 14-Leads, Body 8.75x4mm, Pitch 1.27mm, IPC Medium Density)
footprint TI-D14_L (SOIC, 14-Leads, Body 8.75x4mm, Pitch 1.27mm, IPC High Density)
footprint TI-D14_M (SOIC, 14-Leads, Body 8.75x4mm, Pitch 1.27mm, IPC Low Density)
pins: 1 IQ ADJUST (in), 2 E, 3 B, 4 CHOLD (out), 5 VCC- (power), 6 NC, 7 HOLD CONTROL (in), 8 NC, 9 GND (power), 10 S/H IN+ (in), 11 S/H IN- (in), 12 IOUT,C, 13 VCC+ (power), 14 NC

## OPA615IDGSR
designator U?
Wide Bandwidth, DC Restoration Circuit, -40 to 85 degC, 10-pin SOP (DGS10), Green (RoHS & no Sb/Br); Manufacturer: Texas Instruments; PartNumber: OPA615IDGSR; BW @ Acl(MHz): 710; Iib(Max)(nA): 3000; Io(Typ)(mA): 5; Iq per channel(Max)(mA): 13; Number of Channels: 1; Slew Rate(Typ)(V/us): 2500; SubFamily: Transconductance Amplifier; Vio(Max)(mV): 40; Vn at Flatband(Typ)(nV/rtHz): 4.6; Vs(Max)(V): +/-6.2; Vs(Min)(V): +/-4; DatasheetVersion: SBOS299E; PackageVersion: 4073272/C, 02/2004; PackageReference: DGS10; PackageDescription: 10-Pin Plastic Small Outline, Body 3 x 3 mm, Pitch 0.5 mm; Supplier 1: Digi-Key; Supplier Part Number 1: OPA615IDGSR-ND; Supplier 2: Mouser; Supplier Part Number 2: 595-OPA615IDGSR; Eco-Plan: Green (RoHS & no Sb/Br); Mounting Technology: Surface Mount; Code_JEDEC: MO-153; ComponentLink1Description: Manufacturer URL; ComponentLink1URL: http://www.ti.com/; ComponentLink2Description: Datasheet; ComponentLink2URL: http://www.ti.com/general/docs/lit/getliterature.tsp?genericPartNumber=OPA615&fileType=pdf; ComponentLink3Description: Package Specification; ComponentLink3URL: http://www.ti.com/lit/ml/mpds035b/mpds035b.pdf
footprint TI-DGS10_N (SOP, 10-Leads, Body 3.1x3.1mm, Pitch 0.5mm, IPC Medium Density)
footprint TI-DGS10_L (SOP, 10-Leads, Body 3.1x3.1mm, Pitch 0.5mm, IPC High Density)
footprint TI-DGS10_M (SOP, 10-Leads, Body 3.1x3.1mm, Pitch 0.5mm, IPC Low Density)
pins: 1 E, 2 B, 3 CHOLD (out), 4 VCC- (power), 5 HOLD CONTROL (in), 6 GND (power), 7 S/H IN+ (in), 8 S/H IN- (in), 9 IOUT,C, 10 VCC+ (power)

## OPA615IDGSRG4
designator U?
Wide Bandwidth, DC Restoration Circuit, -40 to 85 degC, 10-pin SOP (DGS10), Green (RoHS & no Sb/Br); Manufacturer: Texas Instruments; PartNumber: OPA615IDGSRG4; BW @ Acl(MHz): 710; Iib(Max)(nA): 3000; Io(Typ)(mA): 5; Iq per channel(Max)(mA): 13; Number of Channels: 1; Slew Rate(Typ)(V/us): 2500; SubFamily: Transconductance Amplifier; Vio(Max)(mV): 40; Vn at Flatband(Typ)(nV/rtHz): 4.6; Vs(Max)(V): +/-6.2; Vs(Min)(V): +/-4; DatasheetVersion: SBOS299E; PackageVersion: 4073272/C, 02/2004; PackageReference: DGS10; PackageDescription: 10-Pin Plastic Small Outline, Body 3 x 3 mm, Pitch 0.5 mm; Supplier 1: Digi-Key; Supplier Part Number 1: OPA615IDGSRG4-ND; Supplier 2: Mouser; Supplier Part Number 2: 595-OPA615IDGSRG4; Eco-Plan: Green (RoHS & no Sb/Br); Mounting Technology: Surface Mount; Code_JEDEC: MO-153; ComponentLink1Description: Manufacturer URL; ComponentLink1URL: http://www.ti.com/; ComponentLink2Description: Datasheet; ComponentLink2URL: http://www.ti.com/general/docs/lit/getliterature.tsp?genericPartNumber=OPA615&fileType=pdf; ComponentLink3Description: Package Specification; ComponentLink3URL: http://www.ti.com/lit/ml/mpds035b/mpds035b.pdf
footprint TI-DGS10_N (SOP, 10-Leads, Body 3.1x3.1mm, Pitch 0.5mm, IPC Medium Density)
footprint TI-DGS10_L (SOP, 10-Leads, Body 3.1x3.1mm, Pitch 0.5mm, IPC High Density)
footprint TI-DGS10_M (SOP, 10-Leads, Body 3.1x3.1mm, Pitch 0.5mm, IPC Low Density)
pins: 1 E, 2 B, 3 CHOLD (out), 4 VCC- (power), 5 HOLD CONTROL (in), 6 GND (power), 7 S/H IN+ (in), 8 S/H IN- (in), 9 IOUT,C, 10 VCC+ (power)

## OPA615IDGST
designator U?
Wide Bandwidth, DC Restoration Circuit, -40 to 85 degC, 10-pin SOP (DGS10), Green (RoHS & no Sb/Br); Manufacturer: Texas Instruments; PartNumber: OPA615IDGST; BW @ Acl(MHz): 710; Iib(Max)(nA): 3000; Io(Typ)(mA): 5; Iq per channel(Max)(mA): 13; Number of Channels: 1; Slew Rate(Typ)(V/us): 2500; SubFamily: Transconductance Amplifier; Vio(Max)(mV): 40; Vn at Flatband(Typ)(nV/rtHz): 4.6; Vs(Max)(V): +/-6.2; Vs(Min)(V): +/-4; DatasheetVersion: SBOS299E; PackageVersion: 4073272/C, 02/2004; PackageReference: DGS10; PackageDescription: 10-Pin Plastic Small Outline, Body 3 x 3 mm, Pitch 0.5 mm; Supplier 1: Digi-Key; Supplier Part Number 1: 296-21396-2-ND; Supplier 2: Digi-Key; Supplier Part Number 2: 296-21396-1-ND; Supplier 3: Digi-Key; Supplier Part Number 3: 296-21396-6-ND; Supplier 4: Newark; Supplier Part Number 4: 27M0450; Supplier 5: Mouser; Supplier Part Number 5: 595-OPA615IDGST; Eco-Plan: Green (RoHS & no Sb/Br); Mounting Technology: Surface Mount; Code_JEDEC: MO-153; ComponentLink1Description: Manufacturer URL; ComponentLink1URL: http://www.ti.com/; ComponentLink2Description: Datasheet; ComponentLink2URL: http://www.ti.com/general/docs/lit/getliterature.tsp?genericPartNumber=OPA615&fileType=pdf; ComponentLink3Description: Package Specification; ComponentLink3URL: http://www.ti.com/lit/ml/mpds035b/mpds035b.pdf
footprint TI-DGS10_N (SOP, 10-Leads, Body 3.1x3.1mm, Pitch 0.5mm, IPC Medium Density)
footprint TI-DGS10_L (SOP, 10-Leads, Body 3.1x3.1mm, Pitch 0.5mm, IPC High Density)
footprint TI-DGS10_M (SOP, 10-Leads, Body 3.1x3.1mm, Pitch 0.5mm, IPC Low Density)
pins: 1 E, 2 B, 3 CHOLD (out), 4 VCC- (power), 5 HOLD CONTROL (in), 6 GND (power), 7 S/H IN+ (in), 8 S/H IN- (in), 9 IOUT,C, 10 VCC+ (power)

## OPA615IDGSTG4
designator U?
Wide Bandwidth, DC Restoration Circuit, -40 to 85 degC, 10-pin SOP (DGS10), Green (RoHS & no Sb/Br); Manufacturer: Texas Instruments; PartNumber: OPA615IDGSTG4; BW @ Acl(MHz): 710; Iib(Max)(nA): 3000; Io(Typ)(mA): 5; Iq per channel(Max)(mA): 13; Number of Channels: 1; Slew Rate(Typ)(V/us): 2500; SubFamily: Transconductance Amplifier; Vio(Max)(mV): 40; Vn at Flatband(Typ)(nV/rtHz): 4.6; Vs(Max)(V): +/-6.2; Vs(Min)(V): +/-4; DatasheetVersion: SBOS299E; PackageVersion: 4073272/C, 02/2004; PackageReference: DGS10; PackageDescription: 10-Pin Plastic Small Outline, Body 3 x 3 mm, Pitch 0.5 mm; Supplier 1: Digi-Key; Supplier Part Number 1: OPA615IDGSTG4-ND; Supplier 2: Mouser; Supplier Part Number 2: 595-OPA615IDGSTG4; Eco-Plan: Green (RoHS & no Sb/Br); Mounting Technology: Surface Mount; Code_JEDEC: MO-153; ComponentLink1Description: Manufacturer URL; ComponentLink1URL: http://www.ti.com/; ComponentLink2Description: Datasheet; ComponentLink2URL: http://www.ti.com/general/docs/lit/getliterature.tsp?genericPartNumber=OPA615&fileType=pdf; ComponentLink3Description: Package Specification; ComponentLink3URL: http://www.ti.com/lit/ml/mpds035b/mpds035b.pdf
footprint TI-DGS10_N (SOP, 10-Leads, Body 3.1x3.1mm, Pitch 0.5mm, IPC Medium Density)
footprint TI-DGS10_L (SOP, 10-Leads, Body 3.1x3.1mm, Pitch 0.5mm, IPC High Density)
footprint TI-DGS10_M (SOP, 10-Leads, Body 3.1x3.1mm, Pitch 0.5mm, IPC Low Density)
pins: 1 E, 2 B, 3 CHOLD (out), 4 VCC- (power), 5 HOLD CONTROL (in), 6 GND (power), 7 S/H IN+ (in), 8 S/H IN- (in), 9 IOUT,C, 10 VCC+ (power)

## OPA615IDR
designator U?
Wide Bandwidth, DC Restoration Circuit, -40 to 85 degC, 14-pin SOIC (D14), Green (RoHS & no Sb/Br); Manufacturer: Texas Instruments; PartNumber: OPA615IDR; BW @ Acl(MHz): 710; Iib(Max)(nA): 3000; Io(Typ)(mA): 5; Iq per channel(Max)(mA): 13; Number of Channels: 1; Slew Rate(Typ)(V/us): 2500; SubFamily: Transconductance Amplifier; Vio(Max)(mV): 40; Vn at Flatband(Typ)(nV/rtHz): 4.6; Vs(Max)(V): +/-6.2; Vs(Min)(V): +/-4; DatasheetVersion: SBOS299E; PackageVersion: 4040047-5/M, 06/2011; PackageReference: D14; PackageDescription: 14-Pin Plastic Small Outline, Body 8.65 x 3.9 mm, Pitch 1.27 mm; Supplier 1: Digi-Key; Supplier Part Number 1: OPA615IDR-ND; Supplier 2: Newark; Supplier Part Number 2: 52K5808; Supplier 3: Mouser; Supplier Part Number 3: 595-OPA615IDR; Eco-Plan: Green (RoHS & no Sb/Br); Mounting Technology: Surface Mount; Code_JEDEC: MS-012; ComponentLink1Description: Manufacturer URL; ComponentLink1URL: http://www.ti.com/; ComponentLink2Description: Datasheet; ComponentLink2URL: http://www.ti.com/general/docs/lit/getliterature.tsp?genericPartNumber=OPA615&fileType=pdf; ComponentLink3Description: Package Specification; ComponentLink3URL: http://www.ti.com/lit/ml/mpds177g/mpds177g.pdf
footprint TI-D14_N (SOIC, 14-Leads, Body 8.75x4mm, Pitch 1.27mm, IPC Medium Density)
footprint TI-D14_L (SOIC, 14-Leads, Body 8.75x4mm, Pitch 1.27mm, IPC High Density)
footprint TI-D14_M (SOIC, 14-Leads, Body 8.75x4mm, Pitch 1.27mm, IPC Low Density)
pins: 1 IQ ADJUST (in), 2 E, 3 B, 4 CHOLD (out), 5 VCC- (power), 6 NC, 7 HOLD CONTROL (in), 8 NC, 9 GND (power), 10 S/H IN+ (in), 11 S/H IN- (in), 12 IOUT,C, 13 VCC+ (power), 14 NC

## OPA615IDRG4
designator U?
Wide Bandwidth, DC Restoration Circuit, -40 to 85 degC, 14-pin SOIC (D14), Green (RoHS & no Sb/Br); Manufacturer: Texas Instruments; PartNumber: OPA615IDRG4; BW @ Acl(MHz): 710; Iib(Max)(nA): 3000; Io(Typ)(mA): 5; Iq per channel(Max)(mA): 13; Number of Channels: 1; Slew Rate(Typ)(V/us): 2500; SubFamily: Transconductance Amplifier; Vio(Max)(mV): 40; Vn at Flatband(Typ)(nV/rtHz): 4.6; Vs(Max)(V): +/-6.2; Vs(Min)(V): +/-4; DatasheetVersion: SBOS299E; PackageVersion: 4040047-5/M, 06/2011; PackageReference: D14; PackageDescription: 14-Pin Plastic Small Outline, Body 8.65 x 3.9 mm, Pitch 1.27 mm; Supplier 1: Digi-Key; Supplier Part Number 1: OPA615IDRG4-ND; Supplier 2: Mouser; Supplier Part Number 2: 595-OPA615IDRG4; Eco-Plan: Green (RoHS & no Sb/Br); Mounting Technology: Surface Mount; Code_JEDEC: MS-012; ComponentLink1Description: Manufacturer URL; ComponentLink1URL: http://www.ti.com/; ComponentLink2Description: Datasheet; ComponentLink2URL: http://www.ti.com/general/docs/lit/getliterature.tsp?genericPartNumber=OPA615&fileType=pdf; ComponentLink3Description: Package Specification; ComponentLink3URL: http://www.ti.com/lit/ml/mpds177g/mpds177g.pdf
footprint TI-D14_N (SOIC, 14-Leads, Body 8.75x4mm, Pitch 1.27mm, IPC Medium Density)
footprint TI-D14_L (SOIC, 14-Leads, Body 8.75x4mm, Pitch 1.27mm, IPC High Density)
footprint TI-D14_M (SOIC, 14-Leads, Body 8.75x4mm, Pitch 1.27mm, IPC Low Density)
pins: 1 IQ ADJUST (in), 2 E, 3 B, 4 CHOLD (out), 5 VCC- (power), 6 NC, 7 HOLD CONTROL (in), 8 NC, 9 GND (power), 10 S/H IN+ (in), 11 S/H IN- (in), 12 IOUT,C, 13 VCC+ (power), 14 NC

## OPA860ID
designator U?
Wide Bandwidth Operational Transconductance Amplifier and Buffer, -40 to 85 degC, 8-pin SOIC (D8), Green (RoHS & no Sb/Br); Manufacturer: Texas Instruments; PartNumber: OPA860ID; Acl, min stable gain(V/V): 1; BW @ Acl(MHz): 80; Iib(Max)(nA): 5000; Io(Typ)(mA): 15; Iq per channel(Max)(mA): 12; Slew Rate(Typ)(V/us): 900; Vn at Flatband(Typ)(nV/rtHz): 2.4; Vs(Max)(V): 13; Vs(Min)(V): 5; DatasheetVersion: SBOS331C; PackageVersion: 4040047-3/M, 06/2011; PackageReference: D8; PackageDescription: 8-Pin Plastic Small Outline, Body 4.9 x 3.9 mm, Pitch 1.27 mm; Supplier 1: Digi-Key; Supplier Part Number 1: 296-18202-ND; Supplier 2: Farnell; Supplier Part Number 2: 1180132; Supplier 3: Newark; Supplier Part Number 3: 26M1915; Supplier 4: Newark; Supplier Part Number 4: 43K4044; Supplier 5: Mouser; Supplier Part Number 5: 595-OPA860ID; Eco-Plan: Green (RoHS & no Sb/Br); Number of Channels: 1; SubFamily: Transconductance Amplifier; Vio(Max)(mV): 12; Mounting Technology: Surface Mount; Code_JEDEC: MS-012; ComponentLink1Description: Manufacturer URL; ComponentLink1URL: http://www.ti.com/; ComponentLink2Description: Datasheet; ComponentLink2URL: http://www.ti.com/general/docs/lit/getliterature.tsp?genericPartNumber=OPA860&fileType=pdf; ComponentLink3Description: Package Specification; ComponentLink3URL: http://www.ti.com/litv/pdf/msoi002j
footprint TI-D8_N (SOIC, 8-Leads, Body 5x4mm, Pitch 1.27mm, IPC Medium Density)
footprint TI-D8_L (SOIC, 8-Leads, Body 5x4mm, Pitch 1.27mm, IPC High Density)
footprint TI-D8_M (SOIC, 8-Leads, Body 5x4mm, Pitch 1.27mm, IPC Low Density)
pins: 1 IQ ADJUST (in), 2 E, 3 B, 4 V- (power), 5 IN (in), 6 OUT (out), 7 V+ (power), 8 C

## OPA860IDG4
designator U?
Wide Bandwidth Operational Transconductance Amplifier and Buffer, -40 to 85 degC, 8-pin SOIC (D8), Green (RoHS & no Sb/Br); Manufacturer: Texas Instruments; PartNumber: OPA860IDG4; Acl, min stable gain(V/V): 1; BW @ Acl(MHz): 80; Iib(Max)(nA): 5000; Io(Typ)(mA): 15; Iq per channel(Max)(mA): 12; Slew Rate(Typ)(V/us): 900; Vn at Flatband(Typ)(nV/rtHz): 2.4; Vs(Max)(V): 13; Vs(Min)(V): 5; DatasheetVersion: SBOS331C; PackageVersion: 4040047-3/M, 06/2011; PackageReference: D8; PackageDescription: 8-Pin Plastic Small Outline, Body 4.9 x 3.9 mm, Pitch 1.27 mm; Supplier 1: Digi-Key; Supplier Part Number 1: OPA860IDG4-ND; Supplier 2: Mouser; Supplier Part Number 2: 595-OPA860IDG4; Eco-Plan: Green (RoHS & no Sb/Br); Number of Channels: 1; SubFamily: Transconductance Amplifier; Vio(Max)(mV): 12; Mounting Technology: Surface Mount; Code_JEDEC: MS-012; ComponentLink1Description: Manufacturer URL; ComponentLink1URL: http://www.ti.com/; ComponentLink2Description: Datasheet; ComponentLink2URL: http://www.ti.com/general/docs/lit/getliterature.tsp?genericPartNumber=OPA860&fileType=pdf; ComponentLink3Description: Package Specification; ComponentLink3URL: http://www.ti.com/litv/pdf/msoi002j
footprint TI-D8_N (SOIC, 8-Leads, Body 5x4mm, Pitch 1.27mm, IPC Medium Density)
footprint TI-D8_L (SOIC, 8-Leads, Body 5x4mm, Pitch 1.27mm, IPC High Density)
footprint TI-D8_M (SOIC, 8-Leads, Body 5x4mm, Pitch 1.27mm, IPC Low Density)
pins: 1 IQ ADJUST (in), 2 E, 3 B, 4 V- (power), 5 IN (in), 6 OUT (out), 7 V+ (power), 8 C

## OPA860IDR
designator U?
Wide Bandwidth Operational Transconductance Amplifier and Buffer, -40 to 85 degC, 8-pin SOIC (D8), Green (RoHS & no Sb/Br); Manufacturer: Texas Instruments; PartNumber: OPA860IDR; Acl, min stable gain(V/V): 1; BW @ Acl(MHz): 80; Iib(Max)(nA): 5000; Io(Typ)(mA): 15; Iq per channel(Max)(mA): 12; Slew Rate(Typ)(V/us): 900; Vn at Flatband(Typ)(nV/rtHz): 2.4; Vs(Max)(V): 13; Vs(Min)(V): 5; DatasheetVersion: SBOS331C; PackageVersion: 4040047-3/M, 06/2011; PackageReference: D8; PackageDescription: 8-Pin Plastic Small Outline, Body 4.9 x 3.9 mm, Pitch 1.27 mm; Supplier 1: Digi-Key; Supplier Part Number 1: OPA860IDR-ND; Supplier 2: Mouser; Supplier Part Number 2: 595-OPA860IDR; Eco-Plan: Green (RoHS & no Sb/Br); Number of Channels: 1; SubFamily: Transconductance Amplifier; Vio(Max)(mV): 12; Mounting Technology: Surface Mount; Code_JEDEC: MS-012; ComponentLink1Description: Manufacturer URL; ComponentLink1URL: http://www.ti.com/; ComponentLink2Description: Datasheet; ComponentLink2URL: http://www.ti.com/general/docs/lit/getliterature.tsp?genericPartNumber=OPA860&fileType=pdf; ComponentLink3Description: Package Specification; ComponentLink3URL: http://www.ti.com/litv/pdf/msoi002j
footprint TI-D8_N (SOIC, 8-Leads, Body 5x4mm, Pitch 1.27mm, IPC Medium Density)
footprint TI-D8_L (SOIC, 8-Leads, Body 5x4mm, Pitch 1.27mm, IPC High Density)
footprint TI-D8_M (SOIC, 8-Leads, Body 5x4mm, Pitch 1.27mm, IPC Low Density)
pins: 1 IQ ADJUST (in), 2 E, 3 B, 4 V- (power), 5 IN (in), 6 OUT (out), 7 V+ (power), 8 C

## OPA860IDRG4
designator U?
Wide Bandwidth Operational Transconductance Amplifier and Buffer, -40 to 85 degC, 8-pin SOIC (D8), Green (RoHS & no Sb/Br); Manufacturer: Texas Instruments; PartNumber: OPA860IDRG4; Acl, min stable gain(V/V): 1; BW @ Acl(MHz): 80; Iib(Max)(nA): 5000; Io(Typ)(mA): 15; Iq per channel(Max)(mA): 12; Slew Rate(Typ)(V/us): 900; Vn at Flatband(Typ)(nV/rtHz): 2.4; Vs(Max)(V): 13; Vs(Min)(V): 5; DatasheetVersion: SBOS331C; PackageVersion: 4040047-3/M, 06/2011; PackageReference: D8; PackageDescription: 8-Pin Plastic Small Outline, Body 4.9 x 3.9 mm, Pitch 1.27 mm; Supplier 1: Digi-Key; Supplier Part Number 1: OPA860IDRG4-ND; Supplier 2: Mouser; Supplier Part Number 2: 595-OPA860IDRG4; Eco-Plan: Green (RoHS & no Sb/Br); Number of Channels: 1; SubFamily: Transconductance Amplifier; Vio(Max)(mV): 12; Mounting Technology: Surface Mount; Code_JEDEC: MS-012; ComponentLink1Description: Manufacturer URL; ComponentLink1URL: http://www.ti.com/; ComponentLink2Description: Datasheet; ComponentLink2URL: http://www.ti.com/general/docs/lit/getliterature.tsp?genericPartNumber=OPA860&fileType=pdf; ComponentLink3Description: Package Specification; ComponentLink3URL: http://www.ti.com/litv/pdf/msoi002j
footprint TI-D8_N (SOIC, 8-Leads, Body 5x4mm, Pitch 1.27mm, IPC Medium Density)
footprint TI-D8_L (SOIC, 8-Leads, Body 5x4mm, Pitch 1.27mm, IPC High Density)
footprint TI-D8_M (SOIC, 8-Leads, Body 5x4mm, Pitch 1.27mm, IPC Low Density)
pins: 1 IQ ADJUST (in), 2 E, 3 B, 4 V- (power), 5 IN (in), 6 OUT (out), 7 V+ (power), 8 C

## OPA861ID
designator U?
Wide Bandwidth Operational Transconductance Amplifier, -40 to 85 degC, 8-pin SOIC (D8), Green (RoHS & no Sb/Br); Manufacturer: Texas Instruments; PartNumber: OPA861ID; BW @ Acl(MHz): 80; Iib(Max)(nA): 5000; Io(Typ)(mA): 15; Iq per channel(Max)(mA): 5.9; Number of Channels: 1; Slew Rate(Typ)(V/us): 900; Vio(Max)(mV): 12; Vn at Flatband(Typ)(nV/rtHz): 2.4; Vs(Max)(V): 12.6; Vs(Min)(V): 4; DatasheetVersion: SBOS338G; PackageVersion: 4040047-3/M, 06/2011; PackageReference: D8; PackageDescription: 8-Pin Plastic Small Outline, Body 4.9 x 3.9 mm, Pitch 1.27 mm; Supplier 1: Digi-Key; Supplier Part Number 1: 296-18699-5-ND; Supplier 2: Farnell; Supplier Part Number 2: 1180133; Supplier 3: Newark; Supplier Part Number 3: 26M1916; Supplier 4: Newark; Supplier Part Number 4: 61K1377; Supplier 5: Mouser; Supplier Part Number 5: 595-OPA861ID; Eco-Plan: Green (RoHS & no Sb/Br); SubFamily: Transconductance Amplifier; Mounting Technology: Surface Mount; Code_JEDEC: MS-012; ComponentLink1Description: Manufacturer URL; ComponentLink1URL: http://www.ti.com/; ComponentLink2Description: Datasheet; ComponentLink2URL: http://www.ti.com/general/docs/lit/getliterature.tsp?genericPartNumber=OPA861&fileType=pdf; ComponentLink3Description: Package Specification; ComponentLink3URL: http://www.ti.com/litv/pdf/msoi002j
footprint TI-D8_N (SOIC, 8-Leads, Body 5x4mm, Pitch 1.27mm, IPC Medium Density)
footprint TI-D8_L (SOIC, 8-Leads, Body 5x4mm, Pitch 1.27mm, IPC High Density)
footprint TI-D8_M (SOIC, 8-Leads, Body 5x4mm, Pitch 1.27mm, IPC Low Density)
pins: 1 IQ ADJUST (in), 2 E, 3 B, 4 V- (power), 5 NC, 6 NC, 7 V+ (power), 8 C